# Altium schematic symbol library AB080x.Schlib: 1 symbol
Pins are listed as number, name and electrical type; pins without a type are passive.

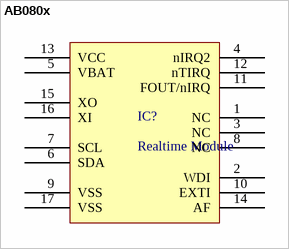
[diagram p0: symbol AB080x]

## AB080x
designator IC?, comment Realtime Module
pins: 1 NC, 2 WDI, 3 NC, 4 nIRQ2, 5 VBAT, 6 SDA, 7 SCL, 8 NC, 9 VSS, 10 EXTI, 11 FOUT/nIRQ, 12 nTIRQ, 13 VCC, 14 AF, 15 XO, 16 XI, 17 VSS